# EAGLE library part TIL306 (library ganzlib)
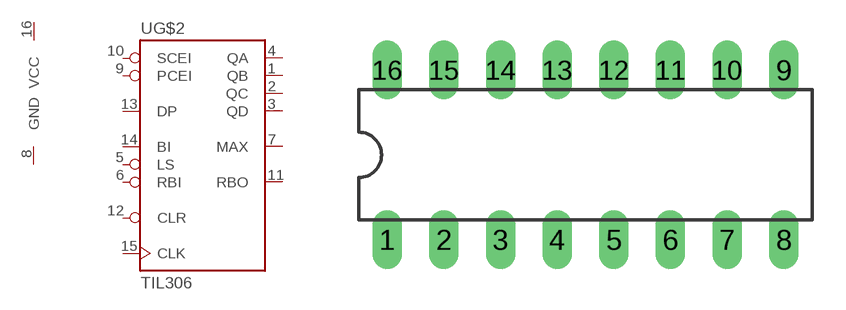
[diagram p4: symbol with the pads of DIL16; footprint DIL16]

Designator prefix U; gates G$1=IC-POWER G$2=TIL306

## TIL306  [DIL16]
1  G$2:QB
2  G$2:QC
3  G$2:QD
4  G$2:QA
5  G$2:LS
6  G$2:RBI
7  G$2:MAX
8  G$1:GND
9  G$2:PCEI
10  G$2:SCEI
11  G$2:RBO
12  G$2:CLR
13  G$2:DP
14  G$2:BI
15  G$2:CLK
16  G$1:VCC

## Footprint DIL16 (pad centres in mm)
Dual In Line Package
drill 0.813 long: 1 -8.89,-3.81; 2 -6.35,-3.81; 3 -3.81,-3.81; 4 -1.27,-3.81; 5 1.27,-3.81; 6 3.81,-3.81; 7 6.35,-3.81; 8 8.89,-3.81; 9 8.89,3.81; 10 6.35,3.81; 11 3.81,3.81; 12 1.27,3.81; 13 -1.27,3.81; 14 -3.81,3.81; 15 -6.35,3.81; 16 -8.89,3.81